# Altium schematic symbol library Schottky Diode.SchLib: 1 symbol
Pins are listed as number, name and electrical type; pins without a type are passive.

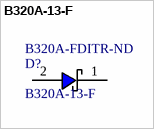
[diagram p0: symbol B320A-13-F]

## B320A-13-F
designator D?  Supplier Part Number 1: B320A-FDITR-ND
Shottky Diode; Supplier 1: Digi-Key
footprint Schottky Diode
pins: 1 OUT, 2 IN